# Altium footprint library TCA9517Q1.PcbLib: 1 footprints
Each footprint in its own frame and in the unit in brackets; x right, y up, seen from the top. Pads: shape width x height; smd on the part's side, far side on the other; paste and mask are expansions set on the pad; w line width, h text height; cw(c..) or ccw(c..) is an arc to the next point about the centre after c.
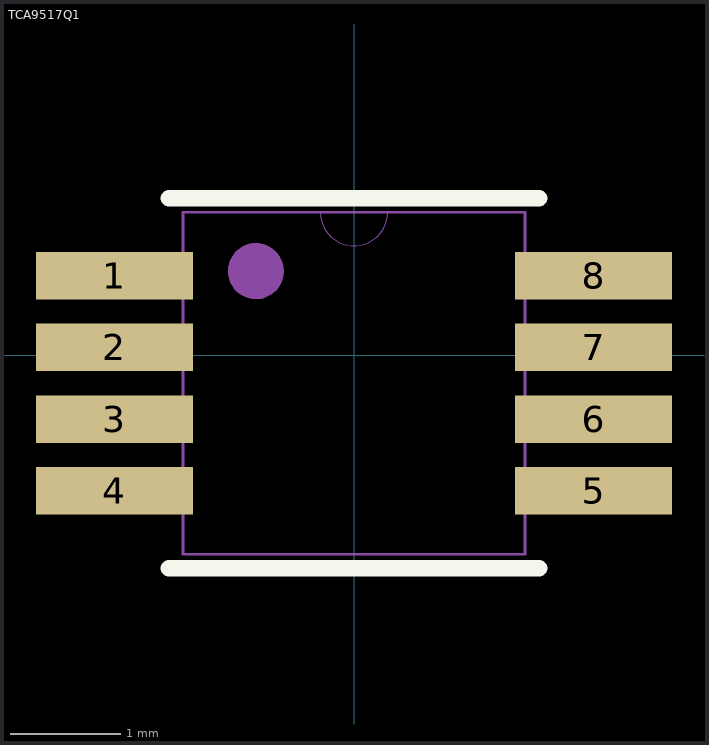
[diagram p0: the footprint, top view; thin cyan lines are the x and y axes]

## TCA9517Q1 [mil]
pads (8):
  rect 56x17 smd: 1(-85.5,28.39) 2(-85.5,2.8) 3(-85.5,-22.8) 4(-85.5,-48.39) 5(85.5,-48.39) 6(85.5,-22.8) 7(85.5,2.8) 8(85.5,28.39)
Top Overlay:
  lines w6: -66,-76 66,-76 ; -66,56 66,56
Mechanical 1:
  circle w10: c-35,30 r5
Mechanical 13:
  lines w0: -12,51 ccw(c0,51) 12,51
  lines w1: -99.5,-55.89 -61,-55.89 -61,-40.89 -99.5,-40.89 -99.5,-55.89 ; -99.5,-30.3 -61,-30.3 -61,-15.3 -99.5,-15.3 -99.5,-30.3 ; -99.5,-4.7 -61,-4.7 -61,10.3 -99.5,10.3 -99.5,-4.7 ; -99.5,20.89 -61,20.89 -61,35.89 -99.5,35.89 -99.5,20.89 ; -61,-71 -61,51 61,51 61,-71 -61,-71 ; 61,-55.89 99.5,-55.89 99.5,-40.89 61,-40.89 61,-55.89 ; 61,-30.3 99.5,-30.3 99.5,-15.3 61,-15.3 61,-30.3 ; 61,-4.7 99.5,-4.7 99.5,10.3 61,10.3 61,-4.7 ; 61,20.89 99.5,20.89 99.5,35.89 61,35.89 61,20.89